# Altium integrated library DLF162500LT-5028A1.IntLib: 1 symbol
Pins are listed as number, name and electrical type; pins without a type are passive.

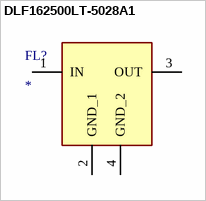
[diagram p0: symbol DLF162500LT-5028A1]

## DLF162500LT-5028A1
designator FL?
Filter; Manufacturer_Name: TDK; Manufacturer_Part_Number: DLF162500LT-5028A1; Description: Signal Conditioning LTCC LOW PASS FLTR 2400-2500MHz; Datasheet Link: https://product.tdk.com/system/files/dam/doc/product/rf/rf/filter/catalog/rf_lpf_dlf162500lt-5028a1_en.pdf; Height: 0.4mm; Mouser Part Number: 810-DLF16250LT5028A1; Mouser Price/Stock: https://www.mouser.co.uk/ProductDetail/TDK/DLF162500LT-5028A1?qs=U%2FZX79kHR%2FlwIbAISCs3qA%3D%3D; Arrow Part Number: DLF162500LT-5028A1; Arrow Price/Stock: https://www.arrow.com/en/products/dlf162500lt-5028a1/tdk?region=europe
footprint DLF162500LT5028A1
pins: 1 IN, 2 GND_1, 3 OUT, 4 GND_2